# Altium footprint library PCB - LEADLESS - QFN - LTC QFN-20 UFD.PcbLib: 1 footprints
Each footprint in its own frame and in the unit in brackets; x right, y up, seen from the top. Pads: shape width x height; smd on the part's side, far side on the other; paste and mask are expansions set on the pad; w line width, h text height; cw(c..) or ccw(c..) is an arc to the next point about the centre after c.
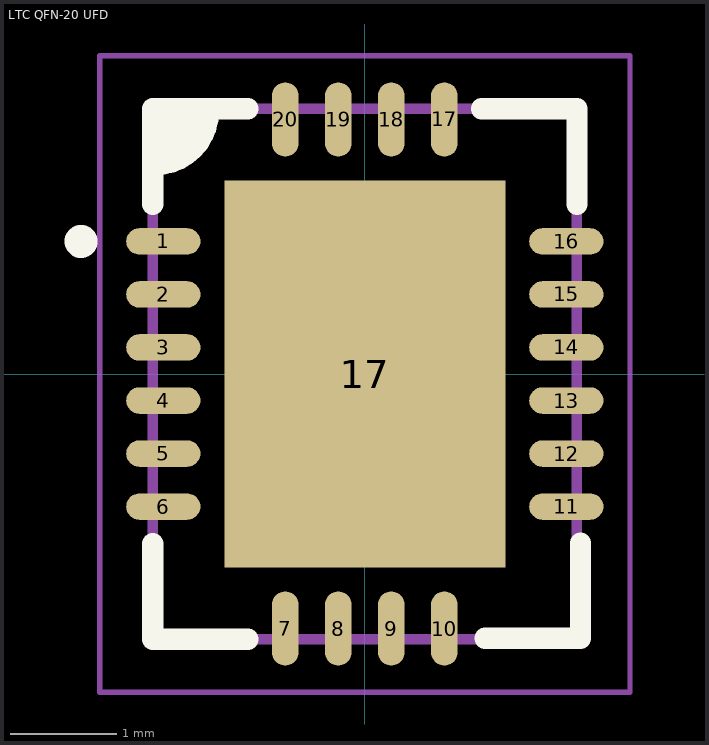
[diagram p0: the footprint, top view; thin cyan lines are the x and y axes]

## LTC QFN-20 UFD [mm] "20-lead Plastic QFN 4.0x5.0mm, thermal pad 2.65x3.65mm"
height 0.8
pads (21):
  oval 0.7x0.25 smd mask+0.082: 1(-1.9,1.25) 2(-1.9,0.75) 3(-1.9,0.25) 4(-1.9,-0.25) 5(-1.9,-0.75) 6(-1.9,-1.25) 11(1.9,-1.25) 12(1.9,-0.75) 13(1.9,-0.25) 14(1.9,0.25) 15(1.9,0.75) 16(1.9,1.25)
  oval 0.25x0.7 smd mask+0.082: 7(-0.75,-2.4) 8(-0.25,-2.4) 9(0.25,-2.4) 10(0.75,-2.4) 17(0.75,2.4) 18(0.25,2.4) 19(-0.25,2.4) 20(-0.75,2.4)
  rect 2.65x3.65 smd mask+0.082: 17(0,0)
Top Overlay:
  circle w0.254: c-2.675,1.25 r0.028
  region: -2.019,2.119 -1.911,2.011 -1.5,2.184 -1.5,2.525 -2.019,2.525
  lines w0.2: -2,-1.6 -2,-2.5 -1.1,-2.5 ; -2,1.6 -2,2.5 -1.1,2.5 ; -1.975,1.975 ccw(c-1.975,2.475) -1.475,2.475 ; 1.1,2.5 2,2.5 2,1.6 ; 1.133,-2.492 2.033,-2.492 2.033,-1.592
Mechanical 13:
  lines w0.1: -2,-2.5 -2,2.5 2,2.5 2,-2.5 -2,-2.5
Mechanical 15 (Mech15):
  lines w0.05: -2.5,-3 -2.5,3 2.5,3 2.5,-3 -2.5,-3
  lines w0.1: -0.5,0 0.5,0 ; 0,-0.5 0,0.5
3D body "LTC - QFN-20 UFD.step": height 0.85, standoff 0, extent -2,-2.5 2,2.5